# Altium footprint library LOCALLIBPCB1.PcbLib: 5 footprints
Each footprint in its own frame and in the unit in brackets; x right, y up, seen from the top. Pads: shape width x height; smd on the part's side, far side on the other; paste and mask are expansions set on the pad; w line width, h text height; cw(c..) or ccw(c..) is an arc to the next point about the centre after c.
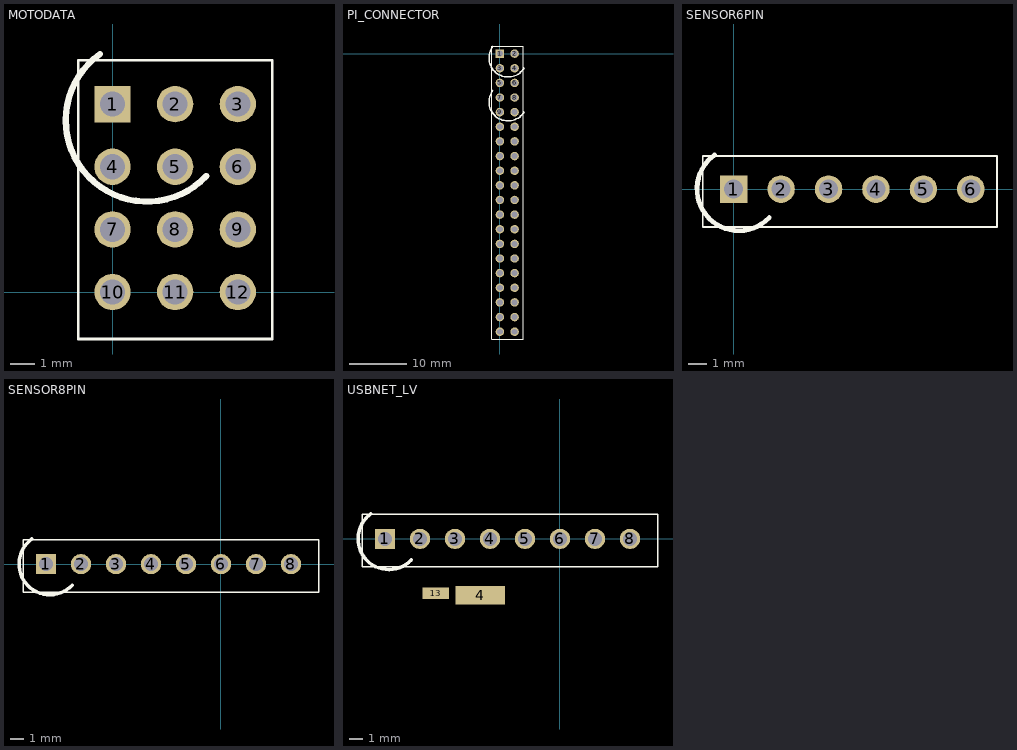
[diagram p0: the footprints below, top view; thin cyan lines are the x and y axes]

## MOTODATA [mil] "4路舵机信号插件"
pads (12):
  rect 58x58 hole 40: 1(0,300)
  round 58 hole 40: 2(100,300) 3(200,300) 4(0,200) 5(100,200) 6(200,200) 7(0,100) 8(100,100) 9(200,100) 10(0,0) 11(100,0) 12(200,0)
Top Overlay:
  lines w4: -55,-75 255,-75 255,370 -55,370 -55,-75
  lines w10: -20,380 ccw(c55.14,274.15) 149.73,185.25

## PI_CONNECTOR [mil] "pi3上的40针插件"
pads (40):
  rect 58x58 hole 40: 1(0,0)
  round 58 hole 40: 2(100,0) 3(0,-100) 4(100,-100) 5(0,-200) 6(100,-200) 7(0,-300) 8(100,-300) 9(0,-400) 10(100,-400) 11(0,-500) 12(100,-500) 13(0,-600) 14(100,-600) 15(0,-700) 16(100,-700) 17(0,-800) 18(100,-800) 19(0,-900) 20(100,-900) 21(0,-1000) 22(100,-1000) 23(0,-1100) 24(100,-1100) 25(0,-1200) 26(100,-1200) 27(0,-1300) 28(100,-1300) 29(0,-1400) 30(100,-1400) 31(0,-1500) 32(100,-1500) 33(0,-1600) 34(100,-1600) 35(0,-1700) 36(100,-1700) 37(0,-1800) 38(100,-1800) 39(0,-1900) 40(100,-1900)
Top Overlay:
  lines w4: -55,-1950 -55,50 160,50 160,-1950 -55,-1950
  lines w10: -48.13,48.58 ccw(c55.19,-30) 166.9,-96.12 ; -47.59,-250.72 ccw(c55.19,-330) 166.9,-396.12

## SENSOR6PIN [mil] "6针传感器"
pads (6):
  rect 58x58 hole 40: 1(0,0)
  round 58 hole 40: 2(100,0) 3(200,0) 4(300,0) 5(400,0) 6(500,0)
Top Overlay:
  lines w4: -65,-80 555,-80 555,70 -65,70 -65,-80
  lines w10: -40.06,72.02 ccw(c10.88,0.27) 75,-60

## SENSOR8PIN [mil] "8针传感器"
pads (8):
  rect 58x58 hole 40: 1(-500,0)
  round 58 hole 40: 2(-400,0) 3(-300,0) 4(-200,0) 5(-100,0) 6(0,0) 7(100,0) 8(200,0)
Top Overlay:
  lines w4: -565,-80 280,-80 280,70 -565,70 -565,-80
  lines w10: -540.06,72.02 ccw(c-489.12,0.27) -425,-60

## USBNET_LV [mil] "铝壳USB转NET"
pads (10):
  rect 58x58 hole 40: 1(-500,0)
  round 58 hole 40: 2(-400,0) 3(-300,0) 4(-200,0) 5(-100,0) 6(0,0) 7(100,0) 8(200,0)
  rect 141.73x53.15 smd: 4(-228.23,-160.63)
  rect 77x33 smd: 13(-355,-155)
Top Overlay:
  lines w4: -565,-80 280,-80 280,70 -565,70 -565,-80
  lines w10: -540.06,72.02 ccw(c-489.12,0.27) -425,-60